# EAGLE library part LM311 (library misc)
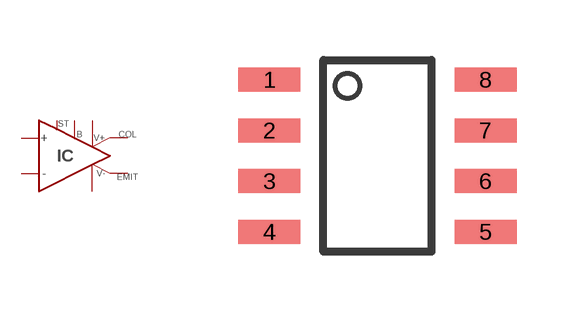
[diagram p20: symbol with the pads of SOIC8; footprint SOIC8]

Designator prefix IC

## LM311 (LCSC#: C12597; MANF: Texas Instruments; MANF#: LM311DR)  [SOIC8]
1  EMIT_OUT
2  IN+
3  IN-
4  V-
5  BALANCE
6  STROBE
7  COL_OUT
8  V+

## Footprint SOIC8 (pad centres in mm)
https://www.ti.com/lit/ds/snvsaq5a/snvsaq5a.pdf?ts=1602424164509
smd 1.55 x 0.6: 1 -2.7,1.905; 2 -2.7,0.635; 3 -2.7,-0.635; 4 -2.7,-1.905; 5 2.7,-1.905; 6 2.7,-0.635; 7 2.7,0.635; 8 2.7,1.905